# EAGLE library part AP65200 (library Parts for D-DAQ)
Buck Converter
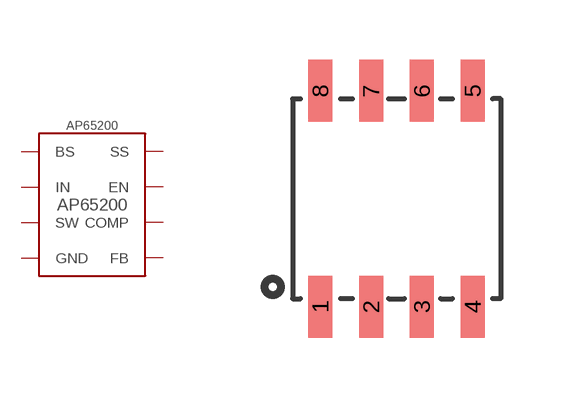
[diagram p5: symbol with the pads of SO-8---AP65200; footprint SO-8---AP65200]

Designator prefix -

## AP65200  [SO-8---AP65200]
1  BS  in
2  IN  pwr
3  SW  out
4  GND  pwr
5  FB  in
6  COMP  in
7  EN
8  SS  in

## Footprint SO-8---AP65200 (pad centres in mm)
smd 0.6 x 1.55: 1 -1.905,-2.7; 2 -0.635,-2.7; 3 0.635,-2.7; 4 1.905,-2.7; 5 1.905,2.7; 6 0.635,2.7; 7 -0.635,2.7; 8 -1.905,2.7